# Altium schematic symbol library Schlib1.SchLib: 2 symbols
Pins are listed as number, name and electrical type; pins without a type are passive.

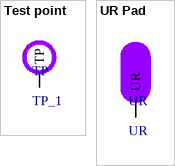
[diagram p0: symbols Test point to UR Pad]

## Test point
designator TP, comment TP_1  (no BOM)
footprint Test point
pins: 1 TP

## UR Pad
designator UR, comment UR
footprint UR Pad
pins: 1 UR